# EAGLE library part MAX9744 (library IowaFormula)
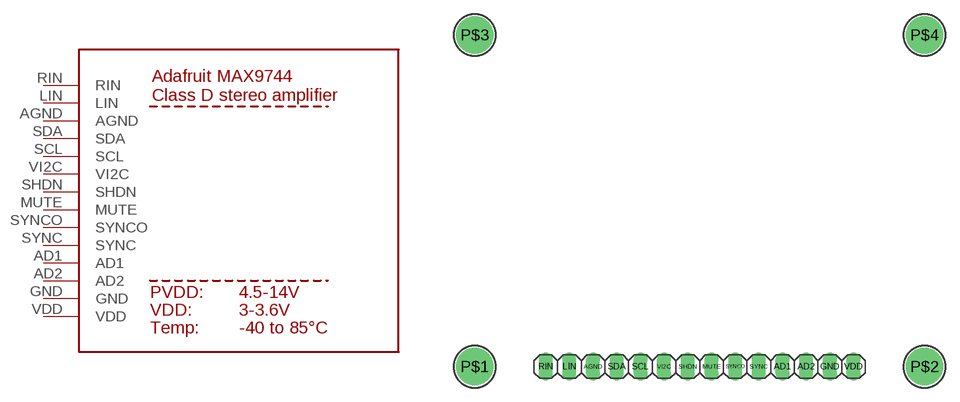
[diagram p8: symbol with the pads of MAX9744; footprint MAX9744]

Designator prefix -

## MAX9744  [MAX9744]
AD1  AD1
AD2  AD2
AGND  AGND
GND  GND
LIN  LIN
MUTE  MUTE
RIN  RIN
SCL  SCL
SDA  SDA
SHDN  SHDN
SYNC  SYNC
SYNCO  SYNCO
VDD  VDD
VI2C  VI2C

## Footprint MAX9744 (pad centres in mm)
drill 1.016 long: AD1 33.02,0; AD2 35.56,0; AGND 12.7,0; GND 38.1,0; LIN 10.16,0; MUTE 25.4,0; RIN 7.62,0; SCL 17.78,0; SDA 15.24,0; SHDN 22.86,0; SYNC 30.48,0; SYNCO 27.94,0; VDD 40.64,0; VI2C 20.32,0
drill 2.5 pad 4: P$1 0,0; P$2 48.26,0; P$3 0,35.56; P$4 48.26,35.56